# Altium footprint library con-mini-fit.PcbLib: 51 footprints (part 2 of 4)
Each footprint in its own frame and in the unit in brackets; x right, y up, seen from the top. Pads: shape width x height; smd on the part's side, far side on the other; paste and mask are expansions set on the pad; w line width, h text height; cw(c..) or ccw(c..) is an arc to the next point about the centre after c.
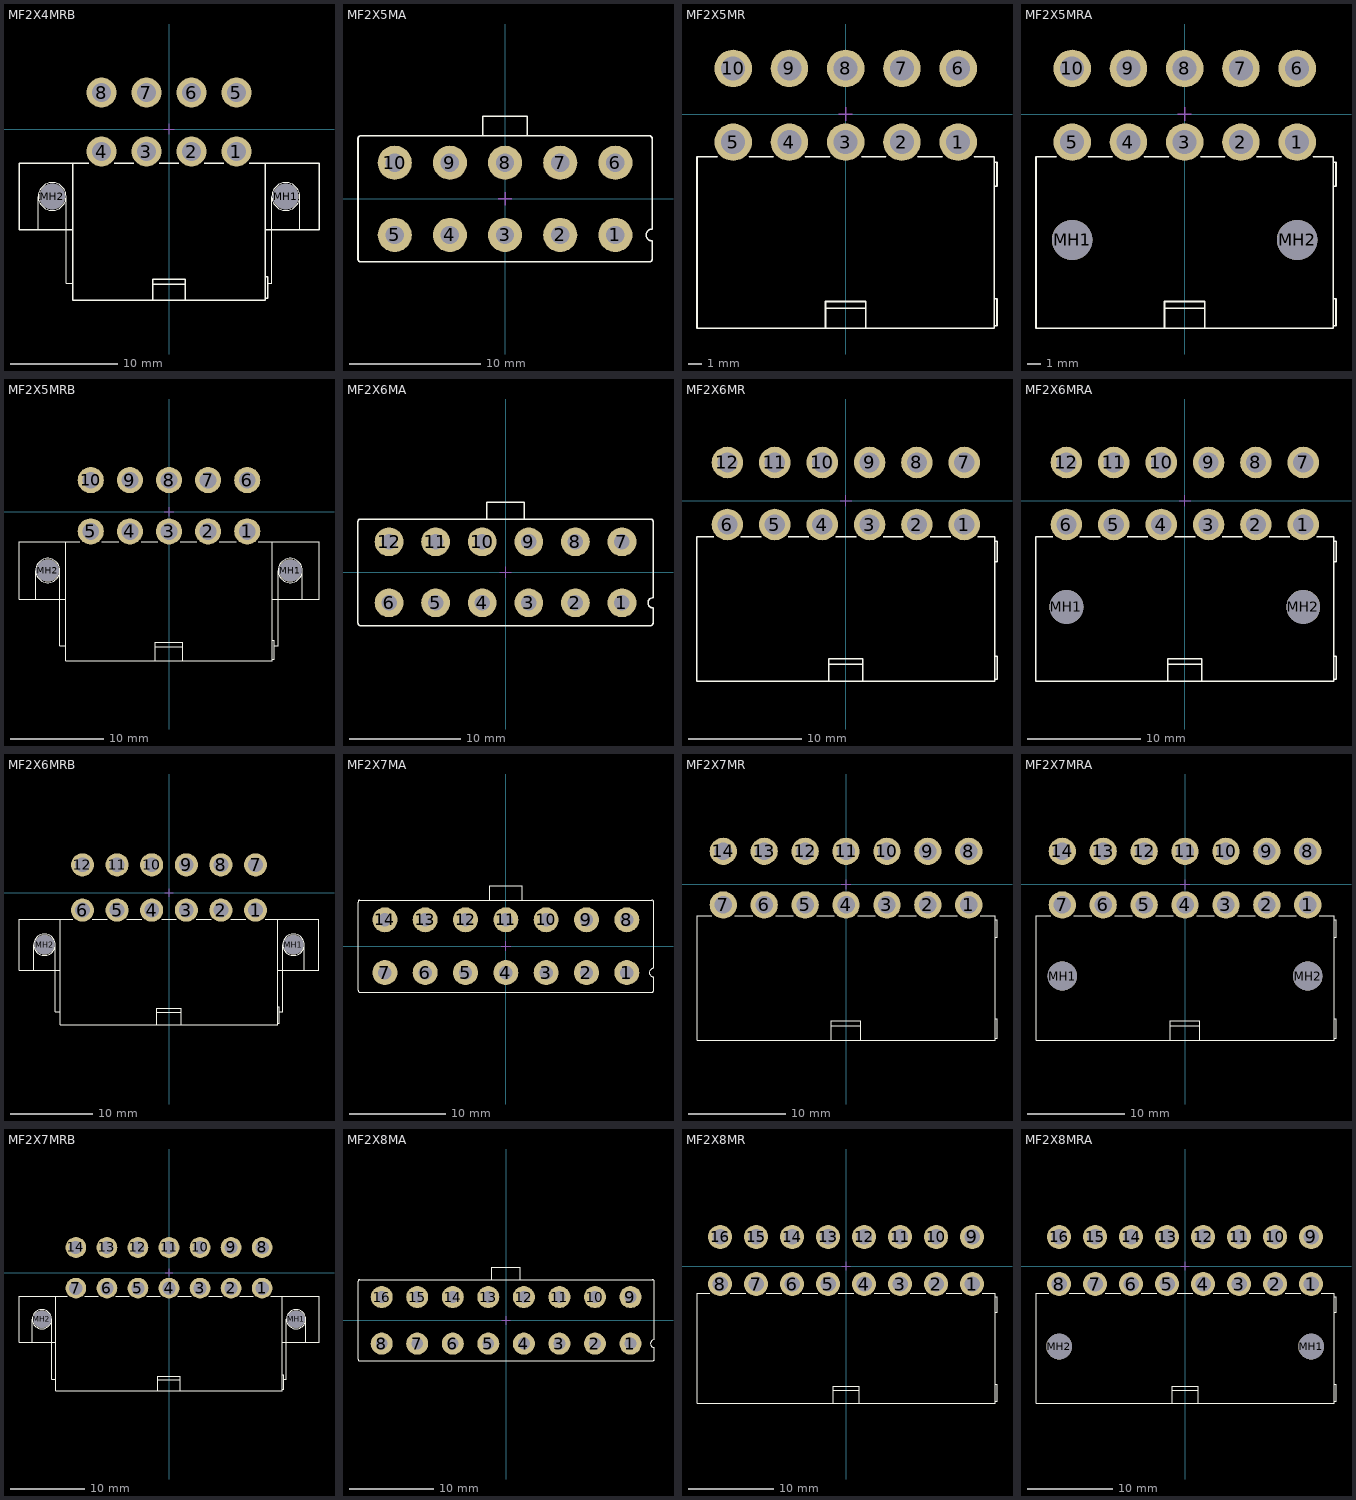
[diagram p1: the footprints below, top view; thin cyan lines are the x and y axes]

## MF2X4MRB [mm]
pads (10):
  round 2.8 / inner round 1.524 / far side round 2.8 hole 1.8: 1(6.3,-2.1) 2(2.1,-2.1) 3(-2.1,-2.1) 4(-6.3,-2.1) 5(6.3,3.4) 6(2.1,3.4) 7(-2.1,3.4) 8(-6.3,3.4)
  round 2.4 hole 2.4 unplated: MH1(10.9,-6.3) MH2(-10.9,-6.3)
Top Overlay:
  circle w0.1: c-10.9,-6.3 r1.3
  circle w0.1: c10.9,-6.3 r1.3
  lines w0.1: -12.2,-9.4 -12.2,-6.3 ; -9.6,-6.3 -9.6,-9.4 -9.6,-14.4 -9,-14.4 ; 9.2,-14.4 9.6,-14.4 9.6,-9.4 9.6,-6.3 ; 12.2,-9.4 12.2,-6.3
  lines w0.127: -9,-9.4 -9.6,-9.4 -12.2,-9.4 -14,-9.4 -14,-3.2 -9,-3.2 ; -7.5,-3.2 -9,-3.2 ; -5.1,-3.2 -3.3,-3.2 ; -0.9,-3.2 0.9,-3.2 ; 3.3,-3.2 5.1,-3.2 ; 7.5,-3.2 9,-3.2 ; 9,-9.4 9.6,-9.4 12.2,-9.4 14,-9.4 14,-3.2 9,-3.2 ; -9,-3.2 -9,-16 -1.5,-16 ; -1.5,-16 -1.5,-14.5 ; -1.5,-16 1.5,-16 ; -1.5,-14.5 -1.5,-14 1.5,-14 1.5,-14.5 ; -1.5,-14.5 1.5,-14.5 ; 1.5,-16 1.5,-14.5 ; 1.5,-16 9,-16 9,-15.8 ; 9,-15.8 9.2,-15.8 9.2,-13.8 9,-13.8 ; 9,-15.8 9,-13.8 ; 9,-13.8 9,-5.4 9,-3.6 9,-3.2
Top Courtyard:
  lines w0.1: -0.5,0 0.5,0 ; 0,-0.5 0,0.5
3D body "39-30-1080.stp": height 11.4, standoff -3.6, extent -9,-16 9.4,3.935

## MF2X5MA [mm]
pads (10):
  round 2.6 / inner round 1.524 / far side round 2.6 hole 1.4: 1(8.4,-2.75) 2(4.2,-2.75) 3(0,-2.75) 4(-4.2,-2.75) 5(-8.4,-2.75) 6(8.4,2.75) 7(4.2,2.75) 8(0,2.75) 9(-4.2,2.75) 10(-8.4,2.75)
Top Overlay:
  lines w0.127: -1.7,4.8 -11,4.8 ccw(c-11,4.6) -11.2,4.6 -11.2,-4.6 ccw(c-11,-4.6) -11,-4.8 11,-4.8 ccw(c11,-4.6) 11.2,-4.6 11.2,-3.2 cw(c11.2,-2.75) 11.2,-2.3 11.2,4.6 ccw(c11,4.6) 11,4.8 1.7,4.8 ; -1.7,4.8 1.7,4.8 ; -1.7,4.8 -1.7,6.3 1.7,6.3 1.7,4.8
Top Courtyard:
  lines w0.1: -0.5,0 0.5,0 ; 0,-0.5 0,0.5
3D body "39-28-1103.stp": height 12.8, standoff -3.5, extent -11.5,-4.8 11.5,6.2

## MF2X5MR [mm]
pads (10):
  round 2.8 / inner round 1.524 / far side round 2.8 hole 1.8: 1(8.4,-2.1) 2(4.2,-2.1) 3(0,-2.1) 4(-4.2,-2.1) 5(-8.4,-2.1) 6(8.4,3.4) 7(4.2,3.4) 8(0,3.4) 9(-4.2,3.4) 10(-8.4,3.4)
Top Overlay:
  lines w0.127: -9.6,-3.2 -11.1,-3.2 -11.1,-16 -1.5,-16 ; -7.2,-3.2 -5.4,-3.2 ; -3,-3.2 -1.2,-3.2 ; 1.2,-3.2 3,-3.2 ; 5.4,-3.2 7.2,-3.2 ; 9.6,-3.2 11.1,-3.2 11.1,-3.6 ; -1.5,-16 1.5,-16 ; -1.5,-16 -1.5,-14.5 ; -1.5,-14.5 1.5,-14.5 ; -1.5,-14.5 -1.5,-14 1.5,-14 1.5,-14.5 ; 1.5,-16 11.1,-16 11.1,-15.8 ; 1.5,-16 1.5,-14.5 ; 11.1,-15.8 11.1,-13.8 ; 11.1,-15.8 11.3,-15.8 11.3,-13.8 11.1,-13.8 ; 11.1,-13.8 11.1,-5.4 ; 11.1,-5.4 11.1,-3.6 ; 11.1,-5.4 11.3,-5.4 11.3,-3.6 11.1,-3.6
Top Courtyard:
  lines w0.1: -0.5,0 0.5,0 ; 0,-0.5 0,0.5
3D body "39-30-1100.stp": height 11.4, standoff -3.6, extent -11.1,-16 11.5,3.935

## MF2X5MRA [mm]
pads (12):
  round 2.8 / inner round 1.524 / far side round 2.8 hole 1.8: 1(8.4,-2.1) 2(4.2,-2.1) 3(0,-2.1) 4(-4.2,-2.1) 5(-8.4,-2.1) 6(8.4,3.4) 7(4.2,3.4) 8(0,3.4) 9(-4.2,3.4) 10(-8.4,3.4)
  round 3 hole 3 unplated: MH1(-8.4,-9.4) MH2(8.4,-9.4)
Top Overlay:
  lines w0.127: -9.6,-3.2 -11.1,-3.2 -11.1,-16 -1.5,-16 ; -7.2,-3.2 -5.4,-3.2 ; -3,-3.2 -1.2,-3.2 ; 1.2,-3.2 3,-3.2 ; 5.4,-3.2 7.2,-3.2 ; 9.6,-3.2 11.1,-3.2 11.1,-3.6 ; -1.5,-16 -1.5,-14.5 ; -1.5,-16 1.5,-16 ; -1.5,-14.5 -1.5,-14 1.5,-14 1.5,-14.5 ; -1.5,-14.5 1.5,-14.5 ; 1.5,-16 1.5,-14.5 ; 1.5,-16 11.1,-16 11.1,-15.8 ; 11.1,-15.8 11.3,-15.8 11.3,-13.8 11.1,-13.8 ; 11.1,-15.8 11.1,-13.8 ; 11.1,-13.8 11.1,-5.4 ; 11.1,-5.4 11.3,-5.4 11.3,-3.6 11.1,-3.6 ; 11.1,-5.4 11.1,-3.6
Top Courtyard:
  lines w0.1: -0.5,0 0.5,0 ; 0,-0.5 0,0.5
3D body "39-30-1100.stp": height 11.4, standoff -3.6, extent -11.1,-16 11.5,3.935

## MF2X5MRB [mm]
pads (12):
  round 2.8 / inner round 1.524 / far side round 2.8 hole 1.8: 1(8.4,-2.1) 2(4.2,-2.1) 3(0,-2.1) 4(-4.2,-2.1) 5(-8.4,-2.1) 6(8.4,3.4) 7(4.2,3.4) 8(0,3.4) 9(-4.2,3.4) 10(-8.4,3.4)
  round 2.4 hole 2.4 unplated: MH1(13,-6.3) MH2(-13,-6.3)
Top Overlay:
  circle w0.1: c-13,-6.3 r1.3
  circle w0.1: c13,-6.3 r1.3
  lines w0.1: -14.3,-9.4 -14.3,-6.3 ; -11.7,-6.3 -11.7,-9.4 -11.7,-14.4 -11.1,-14.4 ; 11.3,-14.4 11.7,-14.4 11.7,-9.4 11.7,-6.3 ; 14.3,-9.4 14.3,-6.3
  lines w0.127: -11.1,-9.4 -11.7,-9.4 -14.3,-9.4 -16.1,-9.4 -16.1,-3.2 -11.1,-3.2 ; -9.6,-3.2 -11.1,-3.2 ; -7.2,-3.2 -5.4,-3.2 ; -3,-3.2 -1.2,-3.2 ; 1.2,-3.2 3,-3.2 ; 5.4,-3.2 7.2,-3.2 ; 9.6,-3.2 11.1,-3.2 ; 11.1,-9.4 11.7,-9.4 14.3,-9.4 16.1,-9.4 16.1,-3.2 11.1,-3.2 ; -11.1,-3.2 -11.1,-16 -1.5,-16 ; -1.5,-16 -1.5,-14.5 ; -1.5,-16 1.5,-16 ; -1.5,-14.5 -1.5,-14 1.5,-14 1.5,-14.5 ; -1.5,-14.5 1.5,-14.5 ; 1.5,-16 1.5,-14.5 ; 1.5,-16 11.1,-16 11.1,-15.8 ; 11.1,-15.8 11.3,-15.8 11.3,-13.8 11.1,-13.8 ; 11.1,-15.8 11.1,-13.8 ; 11.1,-13.8 11.1,-5.4 11.1,-3.6 11.1,-3.2
Top Courtyard:
  lines w0.1: -0.5,0 0.5,0 ; 0,-0.5 0,0.5
3D body "39-30-1100.stp": height 11.4, standoff -3.6, extent -11.1,-16 11.5,3.935

## MF2X6MA [mm]
pads (12):
  round 2.6 / inner round 1.524 / far side round 2.6 hole 1.4: 1(10.5,-2.75) 2(6.3,-2.75) 3(2.1,-2.75) 4(-2.1,-2.75) 5(-6.3,-2.75) 6(-10.5,-2.75) 7(10.5,2.75) 8(6.3,2.75) 9(2.1,2.75) 10(-2.1,2.75) 11(-6.3,2.75) 12(-10.5,2.75)
Top Overlay:
  lines w0.127: -1.7,4.8 -13.1,4.8 ccw(c-13.1,4.6) -13.3,4.6 -13.3,-4.6 ccw(c-13.1,-4.6) -13.1,-4.8 13.1,-4.8 ccw(c13.1,-4.6) 13.3,-4.6 13.3,-3.2 cw(c13.3,-2.75) 13.3,-2.3 13.3,4.6 ccw(c13.1,4.6) 13.1,4.8 1.7,4.8 ; -1.7,4.8 1.7,4.8 ; -1.7,4.8 -1.7,6.3 1.7,6.3 1.7,4.8
Top Courtyard:
  lines w0.1: -0.5,0 0.5,0 ; 0,-0.5 0,0.5
3D body "4640.stp": height 12.8, standoff -3.5, extent -13.6,-4.8 13.6,6.2

## MF2X6MR [mm]
pads (12):
  round 2.8 / inner round 1.524 / far side round 2.8 hole 1.8: 1(10.5,-2.1) 2(6.3,-2.1) 3(2.1,-2.1) 4(-2.1,-2.1) 5(-6.3,-2.1) 6(-10.5,-2.1) 7(10.5,3.4) 8(6.3,3.4) 9(2.1,3.4) 10(-2.1,3.4) 11(-6.3,3.4) 12(-10.5,3.4)
Top Overlay:
  lines w0.127: -11.7,-3.2 -13.2,-3.2 -13.2,-16 -1.5,-16 ; -9.3,-3.2 -7.5,-3.2 ; -5.1,-3.2 -3.3,-3.2 ; -0.9,-3.2 0.9,-3.2 ; 3.3,-3.2 5.1,-3.2 ; 7.5,-3.2 9.3,-3.2 ; 11.7,-3.2 13.2,-3.2 13.2,-3.6 ; -1.5,-16 -1.5,-14.5 ; -1.5,-16 1.5,-16 ; -1.5,-14.5 -1.5,-14 1.5,-14 1.5,-14.5 ; -1.5,-14.5 1.5,-14.5 ; 1.5,-16 1.5,-14.5 ; 1.5,-16 13.2,-16 13.2,-15.8 ; 13.2,-15.8 13.4,-15.8 13.4,-13.8 13.2,-13.8 ; 13.2,-15.8 13.2,-13.8 ; 13.2,-13.8 13.2,-5.4 ; 13.2,-5.4 13.4,-5.4 13.4,-3.6 13.2,-3.6 ; 13.2,-5.4 13.2,-3.6
Top Courtyard:
  lines w0.1: -0.5,0 0.5,0 ; 0,-0.5 0,0.5
3D body "39-30-1120.stp": height 11.4, standoff -3.6, extent -13.2,-16 13.6,3.935

## MF2X6MRA [mm]
pads (14):
  round 2.8 / inner round 1.524 / far side round 2.8 hole 1.8: 1(10.5,-2.1) 2(6.3,-2.1) 3(2.1,-2.1) 4(-2.1,-2.1) 5(-6.3,-2.1) 6(-10.5,-2.1) 7(10.5,3.4) 8(6.3,3.4) 9(2.1,3.4) 10(-2.1,3.4) 11(-6.3,3.4) 12(-10.5,3.4)
  round 3 hole 3 unplated: MH1(-10.5,-9.4) MH2(10.5,-9.4)
Top Overlay:
  lines w0.127: -11.7,-3.2 -13.2,-3.2 -13.2,-16 -1.5,-16 ; -9.3,-3.2 -7.5,-3.2 ; -5.1,-3.2 -3.3,-3.2 ; -0.9,-3.2 0.9,-3.2 ; 3.3,-3.2 5.1,-3.2 ; 7.5,-3.2 9.3,-3.2 ; 11.7,-3.2 13.2,-3.2 13.2,-3.6 ; -1.5,-16 -1.5,-14.5 ; -1.5,-16 1.5,-16 ; -1.5,-14.5 -1.5,-14 1.5,-14 1.5,-14.5 ; -1.5,-14.5 1.5,-14.5 ; 1.5,-16 1.5,-14.5 ; 1.5,-16 13.2,-16 13.2,-15.8 ; 13.2,-15.8 13.4,-15.8 13.4,-13.8 13.2,-13.8 ; 13.2,-15.8 13.2,-13.8 ; 13.2,-13.8 13.2,-5.4 ; 13.2,-5.4 13.4,-5.4 13.4,-3.6 13.2,-3.6 ; 13.2,-5.4 13.2,-3.6
Top Courtyard:
  lines w0.1: -0.5,0 0.5,0 ; 0,-0.5 0,0.5
3D body "39-30-1120.stp": height 11.4, standoff -3.6, extent -13.2,-16 13.6,3.935

## MF2X6MRB [mm]
pads (14):
  round 2.8 / inner round 1.524 / far side round 2.8 hole 1.8: 1(10.5,-2.1) 2(6.3,-2.1) 3(2.1,-2.1) 4(-2.1,-2.1) 5(-6.3,-2.1) 6(-10.5,-2.1) 7(10.5,3.4) 8(6.3,3.4) 9(2.1,3.4) 10(-2.1,3.4) 11(-6.3,3.4) 12(-10.5,3.4)
  round 2.4 hole 2.4 unplated: MH1(15.1,-6.3) MH2(-15.1,-6.3)
Top Overlay:
  circle w0.1: c-15.1,-6.3 r1.3
  circle w0.1: c15.1,-6.3 r1.3
  lines w0.1: -16.4,-9.4 -16.4,-6.3 ; -13.8,-6.3 -13.8,-9.4 -13.8,-14.4 -13.2,-14.4 ; 13.4,-14.4 13.8,-14.4 13.8,-9.4 13.8,-6.3 ; 16.4,-9.4 16.4,-6.3
  lines w0.127: -13.2,-9.4 -13.8,-9.4 -16.4,-9.4 -18.2,-9.4 -18.2,-3.2 -13.2,-3.2 ; -11.7,-3.2 -13.2,-3.2 ; -9.3,-3.2 -7.5,-3.2 ; -5.1,-3.2 -3.3,-3.2 ; -0.9,-3.2 0.9,-3.2 ; 3.3,-3.2 5.1,-3.2 ; 7.5,-3.2 9.3,-3.2 ; 11.7,-3.2 13.2,-3.2 ; 13.2,-9.4 13.8,-9.4 16.4,-9.4 18.2,-9.4 18.2,-3.2 13.2,-3.2 ; -13.2,-3.2 -13.2,-16 -1.5,-16 ; -1.5,-16 -1.5,-14.5 ; -1.5,-16 1.5,-16 ; -1.5,-14.5 -1.5,-14 1.5,-14 1.5,-14.5 ; -1.5,-14.5 1.5,-14.5 ; 1.5,-16 1.5,-14.5 ; 1.5,-16 13.2,-16 13.2,-15.8 ; 13.2,-15.8 13.4,-15.8 13.4,-13.8 13.2,-13.8 ; 13.2,-15.8 13.2,-13.8 ; 13.2,-13.8 13.2,-5.4 13.2,-3.6 13.2,-3.2
Top Courtyard:
  lines w0.1: -0.5,0 0.5,0 ; 0,-0.5 0,0.5
3D body "39-30-1120.stp": height 11.4, standoff -3.6, extent -13.2,-16 13.6,3.935

## MF2X7MA [mm]
pads (14):
  round 2.6 / inner round 1.524 / far side round 2.6 hole 1.4: 1(12.6,-2.75) 2(8.4,-2.75) 3(4.2,-2.75) 4(0,-2.75) 5(-4.2,-2.75) 6(-8.4,-2.75) 7(-12.6,-2.75) 8(12.6,2.75) 9(8.4,2.75) 10(4.2,2.75) 11(0,2.75) 12(-4.2,2.75) 13(-8.4,2.75) 14(-12.6,2.75)
Top Overlay:
  lines w0.127: -1.7,4.8 -1.7,6.3 1.7,6.3 1.7,4.8 ; -1.7,4.8 1.7,4.8 ; -1.7,4.8 -15.2,4.8 ccw(c-15.2,4.6) -15.4,4.6 -15.4,-4.6 ccw(c-15.2,-4.6) -15.2,-4.8 15.2,-4.8 ccw(c15.2,-4.6) 15.4,-4.6 15.4,-3.2 cw(c15.4,-2.75) 15.4,-2.3 15.4,4.6 ccw(c15.2,4.6) 15.2,4.8 1.7,4.8
Top Courtyard:
  lines w0.1: -0.5,0 0.5,0 ; 0,-0.5 0,0.5
3D body "39-31-0140.stp": height 12.8, standoff -3.5, extent -15.7,-4.8 15.7,6.2

## MF2X7MR [mm]
pads (14):
  round 2.8 / inner round 1.524 / far side round 2.8 hole 1.8: 1(12.6,-2.1) 2(8.4,-2.1) 3(4.2,-2.1) 4(0,-2.1) 5(-4.2,-2.1) 6(-8.4,-2.1) 7(-12.6,-2.1) 8(12.6,3.4) 9(8.4,3.4) 10(4.2,3.4) 11(0,3.4) 12(-4.2,3.4) 13(-8.4,3.4) 14(-12.6,3.4)
Top Overlay:
  lines w0.127: -13.8,-3.2 -15.3,-3.2 -15.3,-16 -1.5,-16 ; -11.4,-3.2 -9.6,-3.2 ; -7.2,-3.2 -5.4,-3.2 ; -3,-3.2 -1.2,-3.2 ; 1.2,-3.2 3,-3.2 ; 5.4,-3.2 7.2,-3.2 ; 9.6,-3.2 11.4,-3.2 ; 13.8,-3.2 15.3,-3.2 15.3,-3.6 ; -1.5,-16 1.5,-16 ; -1.5,-16 -1.5,-14.5 ; -1.5,-14.5 1.5,-14.5 ; -1.5,-14.5 -1.5,-14 1.5,-14 1.5,-14.5 ; 1.5,-16 15.3,-16 15.3,-15.8 ; 1.5,-16 1.5,-14.5 ; 15.3,-15.8 15.3,-13.8 ; 15.3,-15.8 15.5,-15.8 15.5,-13.8 15.3,-13.8 ; 15.3,-13.8 15.3,-5.4 ; 15.3,-5.4 15.3,-3.6 ; 15.3,-5.4 15.5,-5.4 15.5,-3.6 15.3,-3.6
Top Courtyard:
  lines w0.1: -0.5,0 0.5,0 ; 0,-0.5 0,0.5
3D body "39-30-1140.stp": height 11.4, standoff -3.6, extent -15.3,-16 15.7,3.935

## MF2X7MRA [mm]
pads (16):
  round 2.8 / inner round 1.524 / far side round 2.8 hole 1.8: 1(12.6,-2.1) 2(8.4,-2.1) 3(4.2,-2.1) 4(0,-2.1) 5(-4.2,-2.1) 6(-8.4,-2.1) 7(-12.6,-2.1) 8(12.6,3.4) 9(8.4,3.4) 10(4.2,3.4) 11(0,3.4) 12(-4.2,3.4) 13(-8.4,3.4) 14(-12.6,3.4)
  round 3 hole 3 unplated: MH1(-12.6,-9.4) MH2(12.6,-9.4)
Top Overlay:
  lines w0.127: -13.8,-3.2 -15.3,-3.2 -15.3,-16 -1.5,-16 ; -11.4,-3.2 -9.6,-3.2 ; -7.2,-3.2 -5.4,-3.2 ; -3,-3.2 -1.2,-3.2 ; 1.2,-3.2 3,-3.2 ; 5.4,-3.2 7.2,-3.2 ; 9.6,-3.2 11.4,-3.2 ; 13.8,-3.2 15.3,-3.2 15.3,-3.6 ; -1.5,-16 -1.5,-14.5 ; -1.5,-16 1.5,-16 ; -1.5,-14.5 -1.5,-14 1.5,-14 1.5,-14.5 ; -1.5,-14.5 1.5,-14.5 ; 1.5,-16 1.5,-14.5 ; 1.5,-16 15.3,-16 15.3,-15.8 ; 15.3,-15.8 15.5,-15.8 15.5,-13.8 15.3,-13.8 ; 15.3,-15.8 15.3,-13.8 ; 15.3,-13.8 15.3,-5.4 ; 15.3,-5.4 15.5,-5.4 15.5,-3.6 15.3,-3.6 ; 15.3,-5.4 15.3,-3.6
Top Courtyard:
  lines w0.1: -0.5,0 0.5,0 ; 0,-0.5 0,0.5
3D body "39-30-1140.stp": height 11.4, standoff -3.6, extent -15.3,-16 15.7,3.935

## MF2X7MRB [mm]
pads (16):
  round 2.8 / inner round 1.524 / far side round 2.8 hole 1.8: 1(12.6,-2.1) 2(8.4,-2.1) 3(4.2,-2.1) 4(0,-2.1) 5(-4.2,-2.1) 6(-8.4,-2.1) 7(-12.6,-2.1) 8(12.6,3.4) 9(8.4,3.4) 10(4.2,3.4) 11(0,3.4) 12(-4.2,3.4) 13(-8.4,3.4) 14(-12.6,3.4)
  round 2.4 hole 2.4 unplated: MH1(17.2,-6.3) MH2(-17.2,-6.3)
Top Overlay:
  circle w0.1: c17.2,-6.3 r1.3
  circle w0.1: c-17.2,-6.3 r1.3
  lines w0.1: -18.5,-9.4 -18.5,-6.3 ; -15.9,-6.3 -15.9,-9.4 -15.9,-14.4 -15.3,-14.4 ; 15.5,-14.4 15.9,-14.4 15.9,-9.4 15.9,-6.3 ; 18.5,-9.4 18.5,-6.3
  lines w0.127: -15.3,-9.4 -15.9,-9.4 -18.5,-9.4 -20.3,-9.4 -20.3,-3.2 -15.3,-3.2 ; -13.8,-3.2 -15.3,-3.2 ; -11.4,-3.2 -9.6,-3.2 ; -7.2,-3.2 -5.4,-3.2 ; -3,-3.2 -1.2,-3.2 ; 1.2,-3.2 3,-3.2 ; 5.4,-3.2 7.2,-3.2 ; 9.6,-3.2 11.4,-3.2 ; 13.8,-3.2 15.3,-3.2 ; 15.3,-9.4 15.9,-9.4 18.5,-9.4 20.3,-9.4 20.3,-3.2 15.3,-3.2 ; -15.3,-3.2 -15.3,-16 -1.5,-16 ; -1.5,-16 1.5,-16 ; -1.5,-16 -1.5,-14.5 ; -1.5,-14.5 1.5,-14.5 ; -1.5,-14.5 -1.5,-14 1.5,-14 1.5,-14.5 ; 1.5,-16 15.3,-16 15.3,-15.8 ; 1.5,-16 1.5,-14.5 ; 15.3,-15.8 15.3,-13.8 ; 15.3,-15.8 15.5,-15.8 15.5,-13.8 15.3,-13.8 ; 15.3,-13.8 15.3,-5.4 15.3,-3.6 15.3,-3.2
Top Courtyard:
  lines w0.1: -0.5,0 0.5,0 ; 0,-0.5 0,0.5
3D body "39-30-1140.stp": height 11.4, standoff -3.6, extent -15.3,-16 15.7,3.935

## MF2X8MA [mm]
pads (16):
  round 2.6 / inner round 1.524 / far side round 2.6 hole 1.4: 1(14.7,-2.75) 2(10.5,-2.75) 3(6.3,-2.75) 4(2.1,-2.75) 5(-2.1,-2.75) 6(-6.3,-2.75) 7(-10.5,-2.75) 8(-14.7,-2.75) 9(14.7,2.75) 10(10.5,2.75) 11(6.3,2.75) 12(2.1,2.75) 13(-2.1,2.75) 14(-6.3,2.75) 15(-10.5,2.75) 16(-14.7,2.75)
Top Overlay:
  lines w0.127: -1.7,4.8 -17.3,4.8 ccw(c-17.3,4.6) -17.5,4.6 -17.5,-4.6 ccw(c-17.3,-4.6) -17.3,-4.8 17.3,-4.8 ccw(c17.3,-4.6) 17.5,-4.6 17.5,-3.2 cw(c17.5,-2.75) 17.5,-2.3 17.5,4.6 ccw(c17.3,4.6) 17.3,4.8 1.7,4.8 ; -1.7,4.8 1.7,4.8 ; -1.7,4.8 -1.7,6.3 1.7,6.3 1.7,4.8
Top Courtyard:
  lines w0.1: -0.5,0 0.5,0 ; 0,-0.5 0,0.5

## MF2X8MR [mm]
pads (16):
  round 2.8 / inner round 1.524 / far side round 2.8 hole 1.8: 1(14.7,-2.1) 2(10.5,-2.1) 3(6.3,-2.1) 4(2.1,-2.1) 5(-2.1,-2.1) 6(-6.3,-2.1) 7(-10.5,-2.1) 8(-14.7,-2.1) 9(14.7,3.4) 10(10.5,3.4) 11(6.3,3.4) 12(2.1,3.4) 13(-2.1,3.4) 14(-6.3,3.4) 15(-10.5,3.4) 16(-14.7,3.4)
Top Overlay:
  lines w0.127: -15.9,-3.2 -17.4,-3.2 -17.4,-16 -1.5,-16 ; -13.5,-3.2 -11.7,-3.2 ; -9.3,-3.2 -7.5,-3.2 ; -5.1,-3.2 -3.3,-3.2 ; -0.9,-3.2 0.9,-3.2 ; 3.3,-3.2 5.1,-3.2 ; 7.5,-3.2 9.3,-3.2 ; 11.7,-3.2 13.5,-3.2 ; 15.9,-3.2 17.4,-3.2 17.4,-3.6 ; -1.5,-16 1.5,-16 ; -1.5,-16 -1.5,-14.5 ; -1.5,-14.5 1.5,-14.5 ; -1.5,-14.5 -1.5,-14 1.5,-14 1.5,-14.5 ; 1.5,-16 17.4,-16 17.4,-15.8 ; 1.5,-16 1.5,-14.5 ; 17.4,-15.8 17.4,-13.8 ; 17.4,-15.8 17.6,-15.8 17.6,-13.8 17.4,-13.8 ; 17.4,-13.8 17.4,-5.4 ; 17.4,-5.4 17.4,-3.6 ; 17.4,-5.4 17.6,-5.4 17.6,-3.6 17.4,-3.6
Top Courtyard:
  lines w0.1: -0.5,0 0.5,0 ; 0,-0.5 0,0.5
3D body "39-30-1160.stp": height 11.4, standoff -3.6, extent -17.4,-16 17.8,3.935

## MF2X8MRA [mm]
pads (18):
  round 2.8 / inner round 1.524 / far side round 2.8 hole 1.8: 1(14.7,-2.1) 2(10.5,-2.1) 3(6.3,-2.1) 4(2.1,-2.1) 5(-2.1,-2.1) 6(-6.3,-2.1) 7(-10.5,-2.1) 8(-14.7,-2.1) 9(14.7,3.4) 10(10.5,3.4) 11(6.3,3.4) 12(2.1,3.4) 13(-2.1,3.4) 14(-6.3,3.4) 15(-10.5,3.4) 16(-14.7,3.4)
  round 3 hole 3 unplated: MH1(14.7,-9.4) MH2(-14.7,-9.4)
Top Overlay:
  lines w0.127: -15.9,-3.2 -17.4,-3.2 -17.4,-16 -1.5,-16 ; -13.5,-3.2 -11.7,-3.2 ; -9.3,-3.2 -7.5,-3.2 ; -5.1,-3.2 -3.3,-3.2 ; -0.9,-3.2 0.9,-3.2 ; 3.3,-3.2 5.1,-3.2 ; 7.5,-3.2 9.3,-3.2 ; 11.7,-3.2 13.5,-3.2 ; 15.9,-3.2 17.4,-3.2 17.4,-3.6 ; -1.5,-16 -1.5,-14.5 ; -1.5,-16 1.5,-16 ; -1.5,-14.5 -1.5,-14 1.5,-14 1.5,-14.5 ; -1.5,-14.5 1.5,-14.5 ; 1.5,-16 1.5,-14.5 ; 1.5,-16 17.4,-16 17.4,-15.8 ; 17.4,-15.8 17.6,-15.8 17.6,-13.8 17.4,-13.8 ; 17.4,-15.8 17.4,-13.8 ; 17.4,-13.8 17.4,-5.4 ; 17.4,-5.4 17.6,-5.4 17.6,-3.6 17.4,-3.6 ; 17.4,-5.4 17.4,-3.6
Top Courtyard:
  lines w0.1: -0.5,0 0.5,0 ; 0,-0.5 0,0.5
3D body "39-30-1160.stp": height 11.4, standoff -3.6, extent -17.4,-16 17.8,3.935